# EAGLE library part DRV8412 (library DRV8412)
DRV8412 TSSOP44
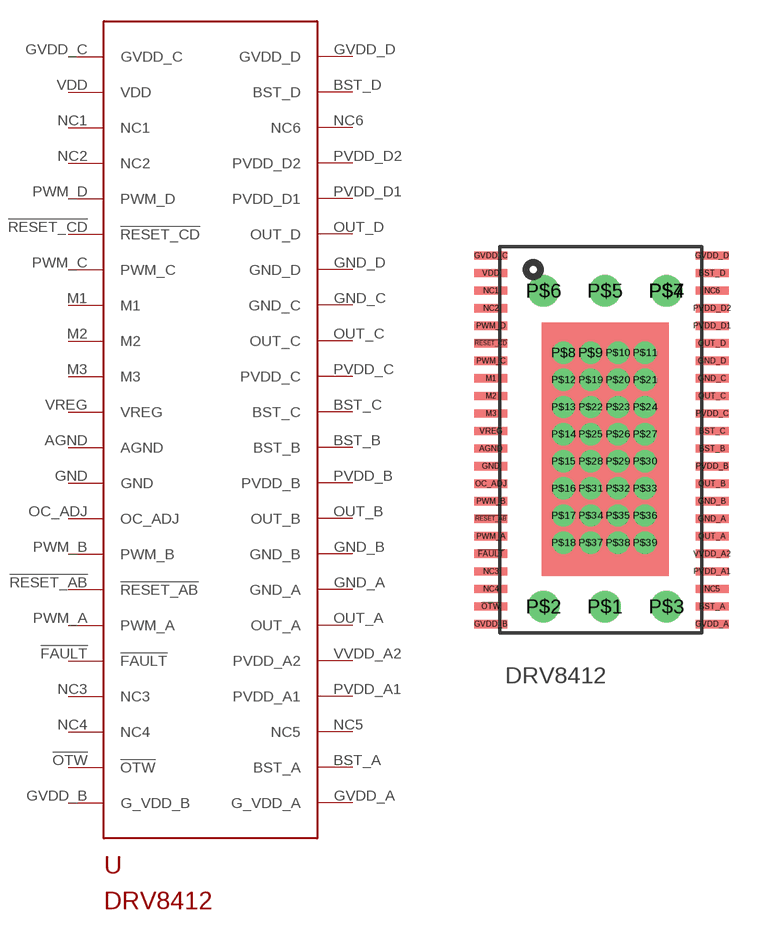
[diagram p0: symbol with the pads of TSSOP24; footprint TSSOP24]

Designator prefix -

## DRV8412TSSOP44  [TSSOP24]
!FAULT!  !FAULT!
!OTW!  !OTW!
!RESET_AB!  !RESET_AB!
!RESET_CD!  !RESET_CD!
AGND  AGND
BST_A  BST_A
BST_B  BST_B
BST_C  BST_C
BST_D  BST_D
GND  GND
GND_A  GND_A
GND_B  GND_B
GND_C  GND_C
GND_D  GND_D
GVDD_A  G_VDD_A
GVDD_B  G_VDD_B
GVDD_C  GVDD_C
GVDD_D  GVDD_D
M1  M1
M2  M2
M3  M3
NC1  NC1
NC2  NC2
NC3  NC3
NC4  NC4
NC5  NC5
NC6  NC6
OC_ADJ  OC_ADJ
OUT_A  OUT_A
OUT_B  OUT_B
OUT_C  OUT_C
OUT_D  OUT_D
PVDD_A1  PVDD_A1
PVDD_B  PVDD_B
PVDD_C  PVDD_C
PVDD_D1  PVDD_D1
PVDD_D2  PVDD_D2
PWM_A  PWM_A
PWM_B  PWM_B
PWM_C  PWM_C
PWM_D  PWM_D
VDD  VDD
VREG  VREG
VVDD_A2  PVDD_A2

## Footprint TSSOP24 (pad centres in mm)
smd 1.19 x 0.3: !FAULT! -3.81,-4.445; !OTW! -3.81,-6.35; !RESET_AB! -3.81,-3.175; !RESET_CD! -3.81,3.175; AGND -3.81,-0.635; BST_A 4.19,-6.35; BST_B 4.19,-0.635; BST_C 4.19,0; BST_D 4.19,5.715; GND -3.81,-1.27; GND_A 4.19,-3.175; GND_B 4.19,-2.54; GND_C 4.19,1.905; GND_D 4.19,2.54; GVDD_A 4.19,-6.985; GVDD_B -3.81,-6.985; GVDD_C -3.81,6.35; GVDD_D 4.19,6.35; M1 -3.81,1.905; M2 -3.81,1.27; M3 -3.81,0.635; NC1 -3.81,5.08; NC2 -3.81,4.445; NC3 -3.81,-5.08; NC4 -3.81,-5.715; NC5 4.19,-5.715; NC6 4.19,5.08; OC_ADJ -3.81,-1.905; OUT_A 4.19,-3.81; OUT_B 4.19,-1.905; OUT_C 4.19,1.27; OUT_D 4.19,3.175; PVDD_A1 4.19,-5.08; PVDD_B 4.19,-1.27; PVDD_C 4.19,0.635; PVDD_D1 4.19,3.81; PVDD_D2 4.19,4.445; PWM_A -3.81,-3.81; PWM_B -3.81,-2.54; PWM_C -3.81,2.54; PWM_D -3.81,3.81; VDD -3.81,5.715; VREG -3.81,0; VVDD_A2 4.19,-4.445
drill 0.635 pad 0.69: P$1 0.318,-6.35; P$2 -1.905,-6.35; P$3 2.54,-6.35; P$4 2.54,5.08; P$5 0.318,5.08; P$6 -1.905,5.08; P$7 2.54,5.08
drill 0.3 pad 0.65: P$8 -1.181,2.836; P$9 -0.199,2.836; P$10 0.784,2.836; P$11 1.766,2.836; P$12 -1.181,1.854; P$13 -1.181,0.871; P$14 -1.181,-0.111; P$15 -1.181,-1.094; P$16 -1.181,-2.076; P$17 -1.181,-3.059; P$18 -1.181,-4.041; P$19 -0.199,1.854; P$20 0.784,1.854; P$21 1.766,1.854; P$22 -0.199,0.871; P$23 0.784,0.871; P$24 1.766,0.871; P$25 -0.199,-0.111; P$26 0.784,-0.111; P$27 1.766,-0.111; P$28 -0.199,-1.094; P$29 0.784,-1.094; P$30 1.766,-1.094; P$31 -0.199,-2.076; P$32 0.784,-2.076; P$33 1.766,-2.076; P$34 -0.199,-3.059; P$35 0.784,-3.059; P$36 1.766,-3.059; P$37 -0.199,-4.041; P$38 0.784,-4.041; P$39 1.766,-4.041